# Altium schematic symbol library WR-BHD_61203422021.SchLib: 1 symbol
Pins are listed as number, name and electrical type; pins without a type are passive.

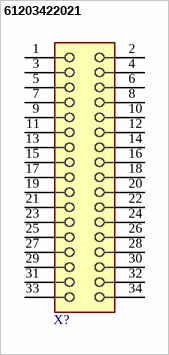
[diagram p0: symbol 61203422021]

## 61203422021
designator X?  (value not drawn)
WR-BHD Male Box Header, THT Straight, pitch 2.54mm, 2 row, 34 pin
pins: 1, 2, 3, 4, 5, 6, 7, 8, 9, 10, 11, 12, 13, 14, 15, 16, 17, 18, 19, 20, 21, 22, 23, 24, 25, 26, 27, 28, 29, 30, 31, 32, 33, 34